# Altium schematic symbol library Resistor5Band.SchLib: 69 symbols
Pins are listed as number, name and electrical type; pins without a type are passive.

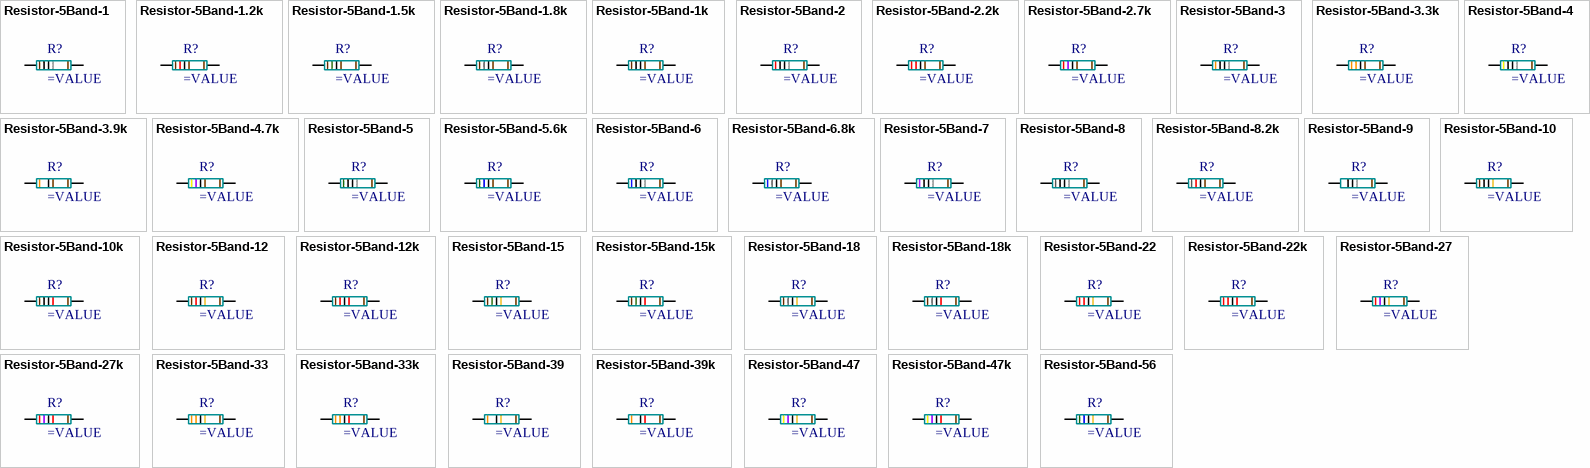
[diagram p0: symbols Resistor-5Band-1 to Resistor-5Band-56]

## Resistor-5Band-1
designator R?
Resistor
pins: 1, 2

## Resistor-5Band-1.2k
designator R?
Resistor
pins: 1, 2

## Resistor-5Band-1.5k
designator R?
Resistor
pins: 1, 2

## Resistor-5Band-1.8k
designator R?
Resistor
pins: 1, 2

## Resistor-5Band-1k
designator R?
Resistor
pins: 1, 2

## Resistor-5Band-2
designator R?
Resistor
pins: 1, 2

## Resistor-5Band-2.2k
designator R?
Resistor
pins: 1, 2

## Resistor-5Band-2.7k
designator R?
Resistor
pins: 1, 2

## Resistor-5Band-3
designator R?
Resistor
pins: 1, 2

## Resistor-5Band-3.3k
designator R?
Resistor
pins: 1, 2

## Resistor-5Band-3.9k
designator R?
Resistor
pins: 1, 2

## Resistor-5Band-4
designator R?
Resistor
pins: 1, 2

## Resistor-5Band-4.7k
designator R?
Resistor
pins: 1, 2

## Resistor-5Band-5
designator R?
Resistor
pins: 1, 2

## Resistor-5Band-5.6k
designator R?
Resistor
pins: 1, 2

## Resistor-5Band-6
designator R?
Resistor
pins: 1, 2

## Resistor-5Band-6.8k
designator R?
Resistor
pins: 1, 2

## Resistor-5Band-7
designator R?
Resistor
pins: 1, 2

## Resistor-5Band-8
designator R?
Resistor
pins: 1, 2

## Resistor-5Band-8.2k
designator R?
Resistor
pins: 1, 2

## Resistor-5Band-9
designator R?
Resistor
pins: 1, 2

## Resistor-5Band-10
designator R?
Resistor
pins: 1, 2

## Resistor-5Band-10k
designator R?
Resistor
pins: 1, 2

## Resistor-5Band-12
designator R?
Resistor
pins: 1, 2

## Resistor-5Band-12k
designator R?
Resistor
pins: 1, 2

## Resistor-5Band-15
designator R?
Resistor
pins: 1, 2

## Resistor-5Band-15k
designator R?
Resistor
pins: 1, 2

## Resistor-5Band-18
designator R?
Resistor
pins: 1, 2

## Resistor-5Band-18k
designator R?
Resistor
pins: 1, 2

## Resistor-5Band-22
designator R?
Resistor
pins: 1, 2

## Resistor-5Band-22k
designator R?
Resistor
pins: 1, 2

## Resistor-5Band-27
designator R?
Resistor
pins: 1, 2

## Resistor-5Band-27k
designator R?
Resistor
pins: 1, 2

## Resistor-5Band-33
designator R?
Resistor
pins: 1, 2

## Resistor-5Band-33k
designator R?
Resistor
pins: 1, 2

## Resistor-5Band-39
designator R?
Resistor
pins: 1, 2

## Resistor-5Band-39k
designator R?
Resistor
pins: 1, 2

## Resistor-5Band-47
designator R?
Resistor
pins: 1, 2

## Resistor-5Band-47k
designator R?
Resistor
pins: 1, 2

## Resistor-5Band-56
designator R?
Resistor
pins: 1, 2

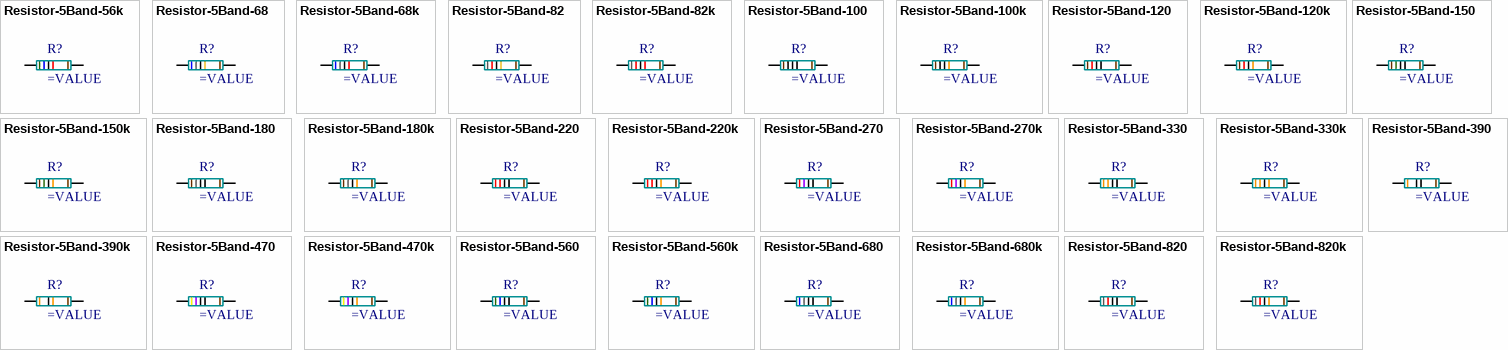
[diagram p1: symbols Resistor-5Band-56k to Resistor-5Band-820k]

## Resistor-5Band-56k
designator R?
Resistor
pins: 1, 2

## Resistor-5Band-68
designator R?
Resistor
pins: 1, 2

## Resistor-5Band-68k
designator R?
Resistor
pins: 1, 2

## Resistor-5Band-82
designator R?
Resistor
pins: 1, 2

## Resistor-5Band-82k
designator R?
Resistor
pins: 1, 2

## Resistor-5Band-100
designator R?
Resistor
pins: 1, 2

## Resistor-5Band-100k
designator R?
Resistor
pins: 1, 2

## Resistor-5Band-120
designator R?
Resistor
pins: 1, 2

## Resistor-5Band-120k
designator R?
Resistor
pins: 1, 2

## Resistor-5Band-150
designator R?
Resistor
pins: 1, 2

## Resistor-5Band-150k
designator R?
Resistor
pins: 1, 2

## Resistor-5Band-180
designator R?
Resistor
pins: 1, 2

## Resistor-5Band-180k
designator R?
Resistor
pins: 1, 2

## Resistor-5Band-220
designator R?
Resistor
pins: 1, 2

## Resistor-5Band-220k
designator R?
Resistor
pins: 1, 2

## Resistor-5Band-270
designator R?
Resistor
pins: 1, 2

## Resistor-5Band-270k
designator R?
Resistor
pins: 1, 2

## Resistor-5Band-330
designator R?
Resistor
pins: 1, 2

## Resistor-5Band-330k
designator R?
Resistor
pins: 1, 2

## Resistor-5Band-390
designator R?
Resistor
pins: 1, 2

## Resistor-5Band-390k
designator R?
Resistor
pins: 1, 2

## Resistor-5Band-470
designator R?
Resistor
pins: 1, 2

## Resistor-5Band-470k
designator R?
Resistor
pins: 1, 2

## Resistor-5Band-560
designator R?
Resistor
pins: 1, 2

## Resistor-5Band-560k
designator R?
Resistor
pins: 1, 2

## Resistor-5Band-680
designator R?
Resistor
pins: 1, 2

## Resistor-5Band-680k
designator R?
Resistor
pins: 1, 2

## Resistor-5Band-820
designator R?
Resistor
pins: 1, 2

## Resistor-5Band-820k
designator R?
Resistor
pins: 1, 2